# Altium schematic symbol library SCH - DRIVER - LED - TI LP5521NJA.SchLib: 1 symbol
Pins are listed as number, name and electrical type; pins without a type are passive.

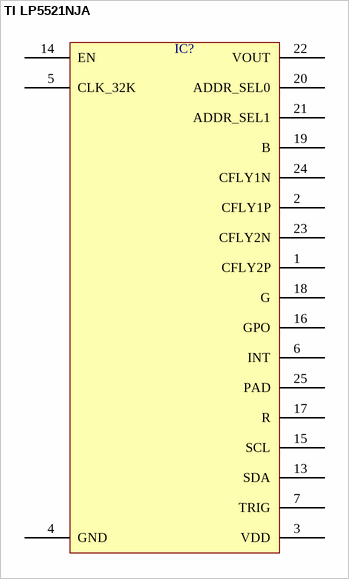
[diagram p0: symbol TI LP5521NJA]

## TI LP5521NJA
designator IC?  (value not drawn)
pins: 1 CFLY2P, 2 CFLY1P, 3 VDD, 4 GND, 5 CLK_32K, 6 INT, 7 TRIG, 13 SDA, 14 EN, 15 SCL, 16 GPO, 17 R, 18 G, 19 B, 20 ADDR_SEL0, 21 ADDR_SEL1, 22 VOUT, 23 CFLY2N, 24 CFLY1N, 25 PAD